# Altium schematic symbol library SCH - ADC - TI ADS1243.SCHLIB: 1 symbol
Pins are listed as number, name and electrical type; pins without a type are passive.

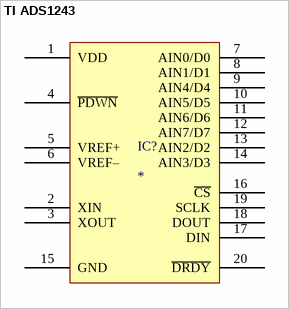
[diagram p0: symbol TI ADS1243]

## TI ADS1243
designator IC?
pins: 1 VDD, 2 XIN, 3 XOUT, 4 ~{PDWN}, 5 VREF+, 6 VREF–, 7 AIN0/D0, 8 AIN1/D1, 9 AIN4/D4, 10 AIN5/D5, 11 AIN6/D6, 12 AIN7/D7, 13 AIN2/D2, 14 AIN3/D3, 15 GND, 16 ~{CS}, 17 DIN, 18 DOUT, 19 SCLK, 20 ~{DRDY}